# Altium footprint library Inductors-transformers.PcbLib: 106 footprints (part 5 of 7)
Each footprint in its own frame and in the unit in brackets; x right, y up, seen from the top. Pads: shape width x height; smd on the part's side, far side on the other; paste and mask are expansions set on the pad; w line width, h text height; cw(c..) or ccw(c..) is an arc to the next point about the centre after c.
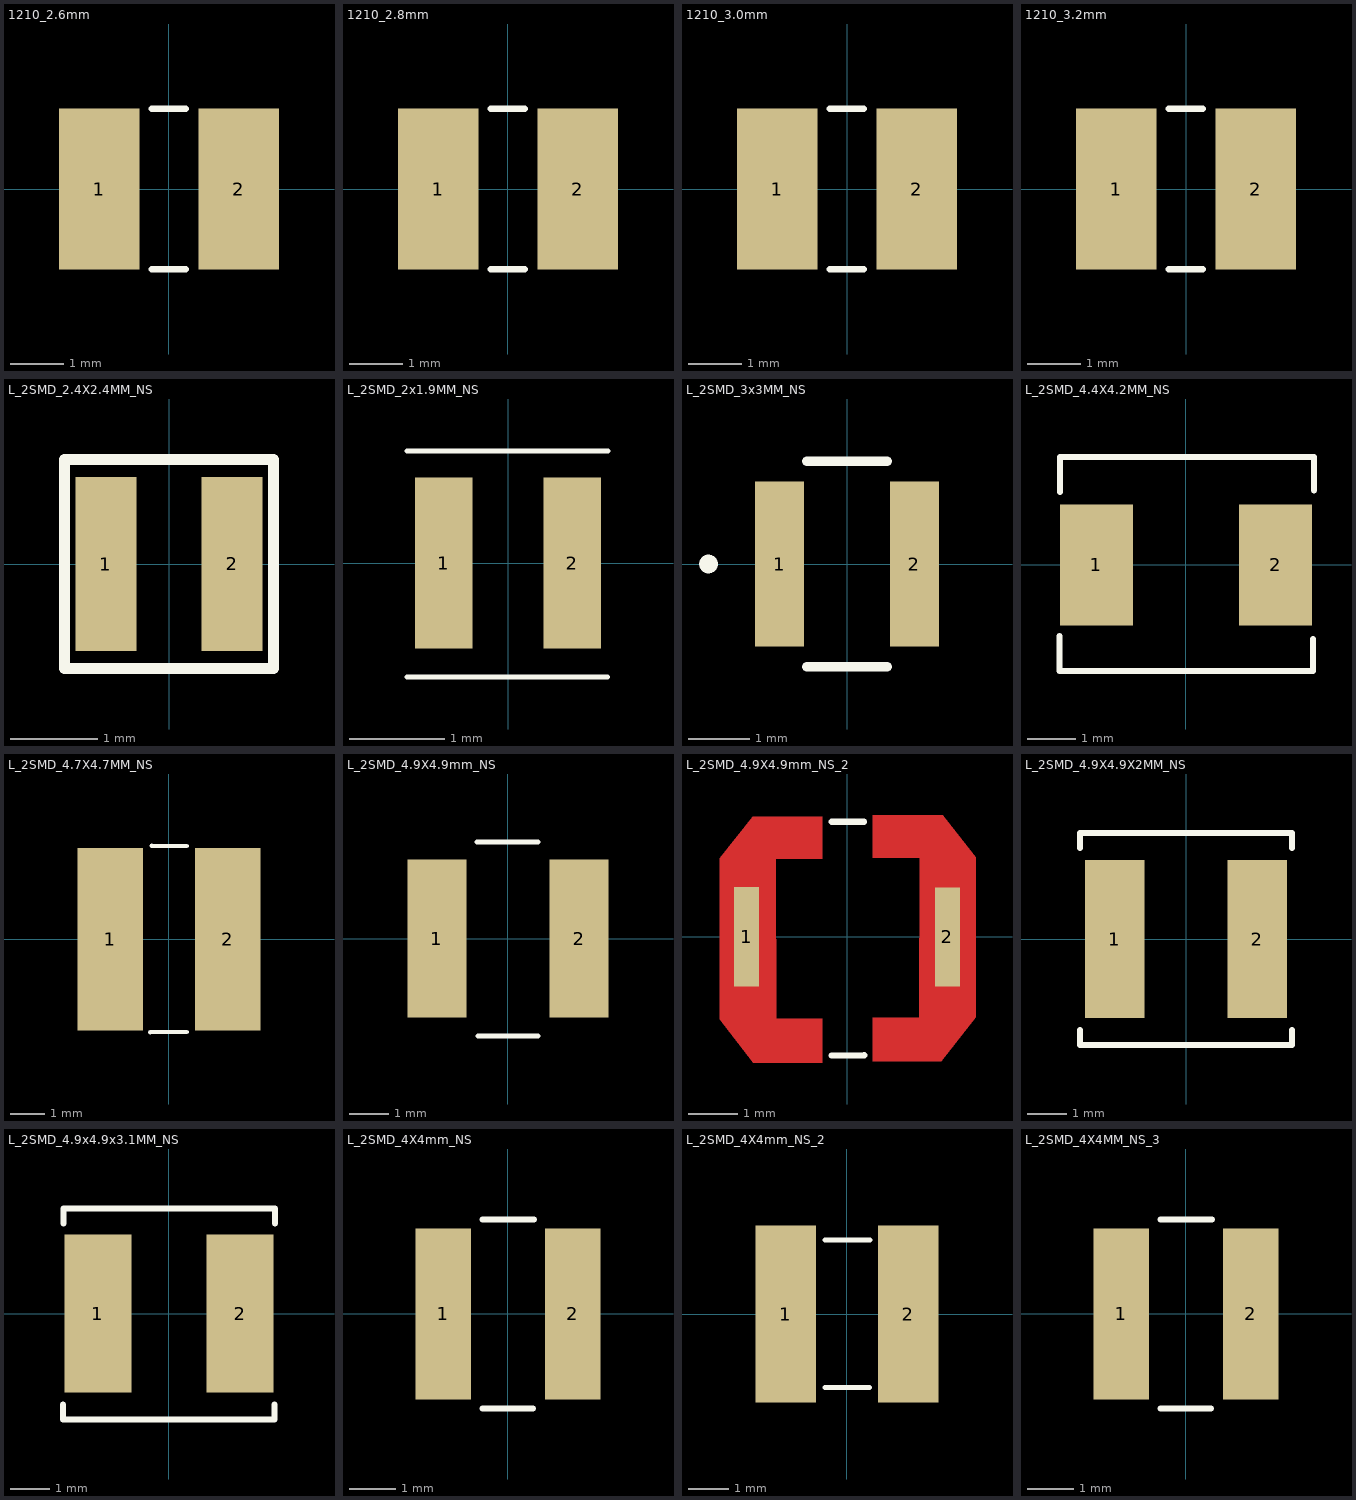
[diagram p4: the footprints below, top view; thin cyan lines are the x and y axes]

## 1210_2.6mm [mm] "3225 Metric/20230306/J-A.Sepulveda"
pads (2):
  rect 1.5x3 smd: 1(-1.3,0) 2(1.3,0)
Top Overlay:
  lines w0.127: -0.322,-1.499 0.313,-1.499 ; -0.322,1.499 0.313,1.499
3D body: height 2.7, standoff 0.1, extent -1.75,-1.4 1.75,1.4

## 1210_2.8mm [mm] "3225 Metric/20230306/J-A.Sepulveda"
pads (2):
  rect 1.5x3 smd: 1(-1.3,0) 2(1.3,0)
Top Overlay:
  lines w0.127: -0.322,-1.499 0.313,-1.499 ; -0.322,1.499 0.313,1.499
3D body: height 2.9, standoff 0.1, extent -1.75,-1.4 1.75,1.4

## 1210_3.0mm [mm] "3225 Metric/20230206/J-A.Sepulveda"
pads (2):
  rect 1.5x3 smd: 1(-1.3,0) 2(1.3,0)
Top Overlay:
  lines w0.127: -0.322,-1.499 0.313,-1.499 ; -0.322,1.499 0.313,1.499
3D body: height 3.1, standoff 0.1, extent -1.75,-1.4 1.75,1.4

## 1210_3.2mm [mm] "3225 Metric/20230206/J-A.Sepulveda"
pads (2):
  rect 1.5x3 smd: 1(-1.3,0) 2(1.3,0)
Top Overlay:
  lines w0.127: -0.322,-1.499 0.313,-1.499 ; -0.322,1.499 0.313,1.499
3D body: height 3.3, standoff 0.1, extent -1.75,-1.4 1.75,1.4

## L_2SMD_2.4X2.4MM_NS [mm] "/20210324/V-A.Patino"
pads (2):
  rect 0.7x2 smd: 1(-0.725,0) 2(0.725,0)
Top Overlay:
  lines w0.127: -1.2,-1.2 1.2,-1.2 1.2,1.2 -1.2,1.2 -1.2,-1.2
3D body: height 1, standoff 0, extent -1.2,-1.2 1.2,1.2

## L_2SMD_2x1.9MM_NS [mm] "20211215 / E.Naranjo"
pads (2):
  rect 0.6x1.8 smd: 1(-0.675,0) 2(0.675,0)
Top Overlay:
  lines w0.05: -1.063,-1.197 1.049,-1.197 ; -1.061,1.177 1.05,1.177
3D body "IND_XPL2010-102MLC_COC.step": height 0.99, standoff 0, extent -1.054,-1.112 1.054,1.098

## L_2SMD_3x3MM_NS [mm] "/20221117/J-A.Sepulveda"
pads (2):
  rect 0.8x2.7 smd: 1(-1.099,0) 2(1.099,0)
Top Overlay:
  circle w0.152: c-2.261,0 r0.076
  lines w0.152: -0.657,-1.676 0.657,-1.676 ; -0.657,1.676 0.657,1.676
3D body "IND_TAIYO_NR3012_TAY.step": height 1.19, standoff 0, extent -1.549,-1.552 1.549,1.552

## L_2SMD_4.4X4.2MM_NS [mm] "/20210818/J-E.Pachon"
pads (2):
  rect 1.5x2.5 smd: 1(-1.85,0) 2(1.85,0)
Top Overlay:
  lines w0.127: -2.615,-1.469 -2.615,-2.196 2.625,-2.196 2.625,-1.535 ; -2.602,1.503 -2.602,2.231 -2.361,2.231 2.642,2.231 2.642,1.538
3D body: height 2, standoff 0.25, extent -2.209,-2.09 2.186,2.12

## L_2SMD_4.7X4.7MM_NS [mm] "/20210105/J-E.Pachon"
pads (2):
  rect 1.9x5.3 smd: 1(-1.7,0) 2(1.7,0)
Top Overlay:
  lines w0.127: -0.54,-2.694 0.517,-2.688 ; -0.504,2.709 0.52,2.705
3D body "NRS5040.step": height 3.02, standoff 0.02, extent -2.544,-2.483 2.356,2.417

## L_2SMD_4.9X4.9mm_NS [mm] "20190516/ V-A.Patino"
pads (2):
  rect 1.5x4 smd: 1(-1.8,0) 2(1.8,0)
Top Overlay:
  lines w0.127: -0.786,2.443 0.764,2.443 ; -0.76,-2.464 0.764,-2.464
3D body "NRS5040.step": height 3.02, standoff 0.02, extent -2.472,-2.487 2.428,2.413

## L_2SMD_4.9X4.9mm_NS_2 [mm] "/20210217/J-E.Pachon"
pads (2):
  rect 0.5x2 smd: 1(-2.025,0.003) 2(2.025,-0.003)
Top Layer:
  region: -2.567,1.584 -2.567,-1.663 -1.892,-2.535 -0.496,-2.535 -0.496,-1.654 -1.425,-1.654 -1.434,1.574 -0.496,1.574 -0.496,2.426 -1.901,2.426
  region: 2.595,1.608 2.595,-1.618 1.902,-2.512 0.524,-2.512 0.524,-1.631 1.453,-1.631 1.462,1.596 0.524,1.596 0.524,2.448 1.93,2.448
Top Overlay:
  lines w0.127: -0.31,2.32 0.343,2.323 ; -0.306,-2.391 0.348,-2.388
Top Paste:
  region: 2.595,1.608 2.595,-1.618 1.902,-2.512 0.524,-2.512 0.524,-1.631 1.453,-1.631 1.462,1.596 0.524,1.596 0.524,2.448 1.93,2.448
  region: -2.567,1.584 -2.567,-1.663 -1.892,-2.535 -0.496,-2.535 -0.496,-1.654 -1.425,-1.654 -1.434,1.574 -0.496,1.574 -0.496,2.426 -1.901,2.426
Top Solder:
  region: 2.595,1.608 2.595,-1.618 1.902,-2.512 0.524,-2.512 0.524,-1.631 1.453,-1.631 1.462,1.596 0.524,1.596 0.524,2.448 1.93,2.448
  region: -2.567,1.584 -2.567,-1.663 -1.892,-2.535 -0.496,-2.535 -0.496,-1.654 -1.425,-1.654 -1.434,1.574 -0.496,1.574 -0.496,2.426 -1.901,2.426
3D body "Coilcraft-LPS5030.step": height 2.86, standoff -0.14, extent -2.399,-2.453 2.481,2.427

## L_2SMD_4.9X4.9X2MM_NS [mil] "20220909 / E.Naranjo"
pads (2):
  rect 59x157 smd: 1(-71,0) 2(71,0)
Top Overlay:
  lines w6: -105.5,-90.61 -105.5,-105.5 105.5,-105.5 105.5,-90.61 ; -105.5,90.61 -105.5,105.5 105.5,105.5 105.5,90.61
3D body "IND_TAIYO_NRS5020_TAY.step": height 79.02, standoff 0, extent -99.18,-100.58 101.84,100.6

## L_2SMD_4.9x4.9x3.1MM_NS [mm] "/20221129/J-A.Sepulveda"
pads (2):
  rect 1.7x4 smd: 1(-1.8,0) 2(1.8,0)
Top Overlay:
  lines w0.152: -2.683,-2.304 -2.683,-2.683 2.676,-2.683 2.676,-2.304 ; -2.677,2.283 -2.677,2.661 2.682,2.661 2.682,2.283
3D body "IND_NRS5030_TAY.step": height 3.1, standoff 0, extent -2.553,-2.553 2.553,2.553

## L_2SMD_4X4mm_NS [mm] "20190516 / V-A.Patino"
pads (2):
  rect 1.2x3.7 smd: 1(-1.4,0) 2(1.4,0)
Top Overlay:
  lines w0.127: -0.552,-2.053 0.541,-2.053 ; -0.552,2.049 0.566,2.049
3D body "NRS4018.stp": height 1.8, standoff 0, extent -2.023,-2.047 2.067,2.047

## L_2SMD_4X4mm_NS_2 [mm] "20190516 / V-A.Patino"
pads (2):
  rect 1.5x4.4 smd: 1(-1.525,0) 2(1.525,0)
Top Overlay:
  lines w0.127: -0.544,1.84 0.574,1.84 ; -0.539,-1.822 0.553,-1.822
3D body "STEP-WE-LQS-4025-rev1.stp": height 2.15, standoff 0, extent -1.974,-1.993 2.026,2.007

## L_2SMD_4X4MM_NS_3 [mm] "/20210803/J-E.Pachon"
pads (2):
  rect 1.2x3.7 smd: 1(-1.4,0) 2(1.4,0)
Top Overlay:
  lines w0.127: -0.552,-2.053 0.541,-2.053 ; -0.552,2.049 0.566,2.049
3D body: height 2.1, standoff 0, extent -2,-1.85 2,1.85